# EAGLE library part 6180XX211721_618037211721 (library WR-DSUB)
WR-DSUB 8.08 mm Male Angled PCB Connector w/o Hex Screw Kind Properties Quality Class:3 as per CECC 75 301-802 Gender:Male Type:Angled Insulator Material:PBT Insulator Flammability Rating:UL94 V-0 Color:Black Contact Material:Copper Alloy Contact Plating:Gold Contact Type:Stamped Shielding Material:Steel Shielding Plating:Nickel General Information Operating Temperature:-55 up to +105 °C Compliance:RoHS Electrical Properties IR1:3 A Working Voltage:125 V (AC) Withstanding Voltage:1000 V (AC) Contact Resistance:30 mΩ <https://www.we-online.com/components/media/o33075v209%20Family_WR-DSUB_6180xx211721.jpg> Details see: https://www.we-online.com/en/components/products/DSUB_MALE_ANGLED_PCB_CONNECTOR_W_O_HEX_SCREW_8_08MM_6180XX211721 Updated by Ella 2023-03-21 2023 (C) Würth Elektronik
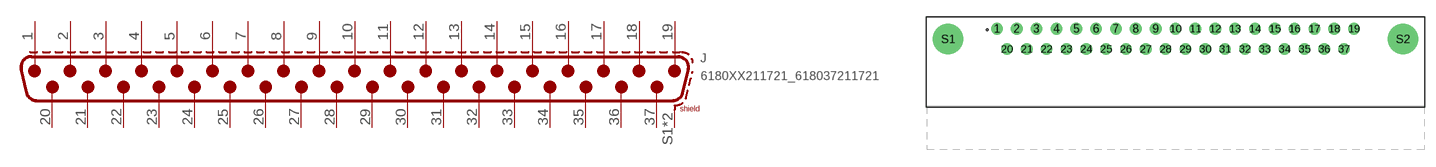
[diagram p32: symbol with the pads of 618037211721; footprint 618037211721]

Designator prefix J

## 6180XX211721_618037211721 (DATASHEET-URL: https://www.we-online.com/redexpert/spec/618037211721?ae; GENDER: Male; OPERATING-TEMPERATURE: -55 °C up to +105 °C; PART-NUMBER: 618037211721; PINS: 37; TYPE: Angled; VALUE: 618037211721; WORKING-VOLTAGE: 125VAC)  [618037211721]
1  1
2  2
3  3
4  4
5  5
6  6
7  7
8  8
9  9
10  10
11  11
12  12
13  13
14  14
15  15
16  16
17  17
18  18
19  19
20  20
21  21
22  22
23  23
24  24
25  25
26  26
27  27
28  28
29  29
30  30
31  31
32  32
33  33
34  34
35  35
36  36
37  37
S1  SHIELD
S2  SHIELD

## Footprint 618037211721 (pad centres in mm)
WR-DSUB 8.08mm Male Angled PCB Connector without Hex Screw, 37 pins
drill 1.09: 1 -24.93,7.72; 2 -22.16,7.72; 3 -19.39,7.72; 4 -16.62,7.72; 5 -13.85,7.72; 6 -11.08,7.72; 7 -8.31,7.72; 8 -5.54,7.72; 9 -2.77,7.72; 10 0,7.72; 11 2.77,7.72; 12 5.54,7.72; 13 8.31,7.72; 14 11.08,7.72; 15 13.85,7.72; 16 16.62,7.72; 17 19.39,7.72; 18 22.16,7.72; 19 24.93,7.72; 20 -23.545,4.88; 21 -20.775,4.88; 22 -18.005,4.88; 23 -15.235,4.88; 24 -12.465,4.88; 25 -9.695,4.88; 26 -6.925,4.88; 27 -4.155,4.88; 28 -1.385,4.88; 29 1.385,4.88; 30 4.155,4.88; 31 6.925,4.88; 32 9.695,4.88; 33 12.465,4.88; 34 15.235,4.88; 35 18.005,4.88; 36 20.775,4.88; 37 23.545,4.88
drill 3.2: S1 -31.75,6.3; S2 31.75,6.3